# EAGLE library part SN74LVC2G07 (library TI (v6))
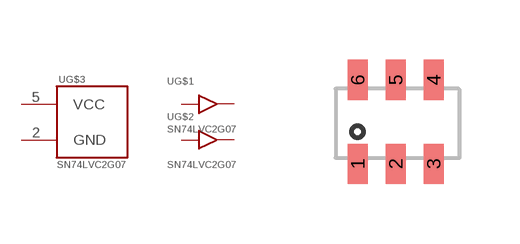
[diagram p6: symbol with the pads of SOT-6_DDC; footprint SOT-6_DDC]

Designator prefix -; gates G$1=BUFFER G$2=BUFFER G$3=VCC-GND

## SN74LVC2G07DBV  [SOT-6_DDC]
1  G$1:A  in
2  G$3:GND  pwr
3  G$2:A  in
4  G$2:Y  out
5  G$3:VCC  pwr
6  G$1:Y  out

## Footprint SOT-6_DDC (pad centres in mm)
SOT (Small Outline Transistor), 6 pins Based off TI DDC (R-PDSO-G6) package: http://www.ti.com/lit/ml/mpds124d/mpds124d.pdf
smd 0.5 x 1: 1 -0.95,-1.05; 2 0,-1.05; 3 0.95,-1.05; 4 0.95,1.05; 5 0,1.05; 6 -0.95,1.05